# Altium footprint library IP5306_1.PcbLib: 13 footprints
Each footprint in its own frame and in the unit in brackets; x right, y up, seen from the top. Pads: shape width x height; smd on the part's side, far side on the other; paste and mask are expansions set on the pad; w line width, h text height; cw(c..) or ccw(c..) is an arc to the next point about the centre after c.
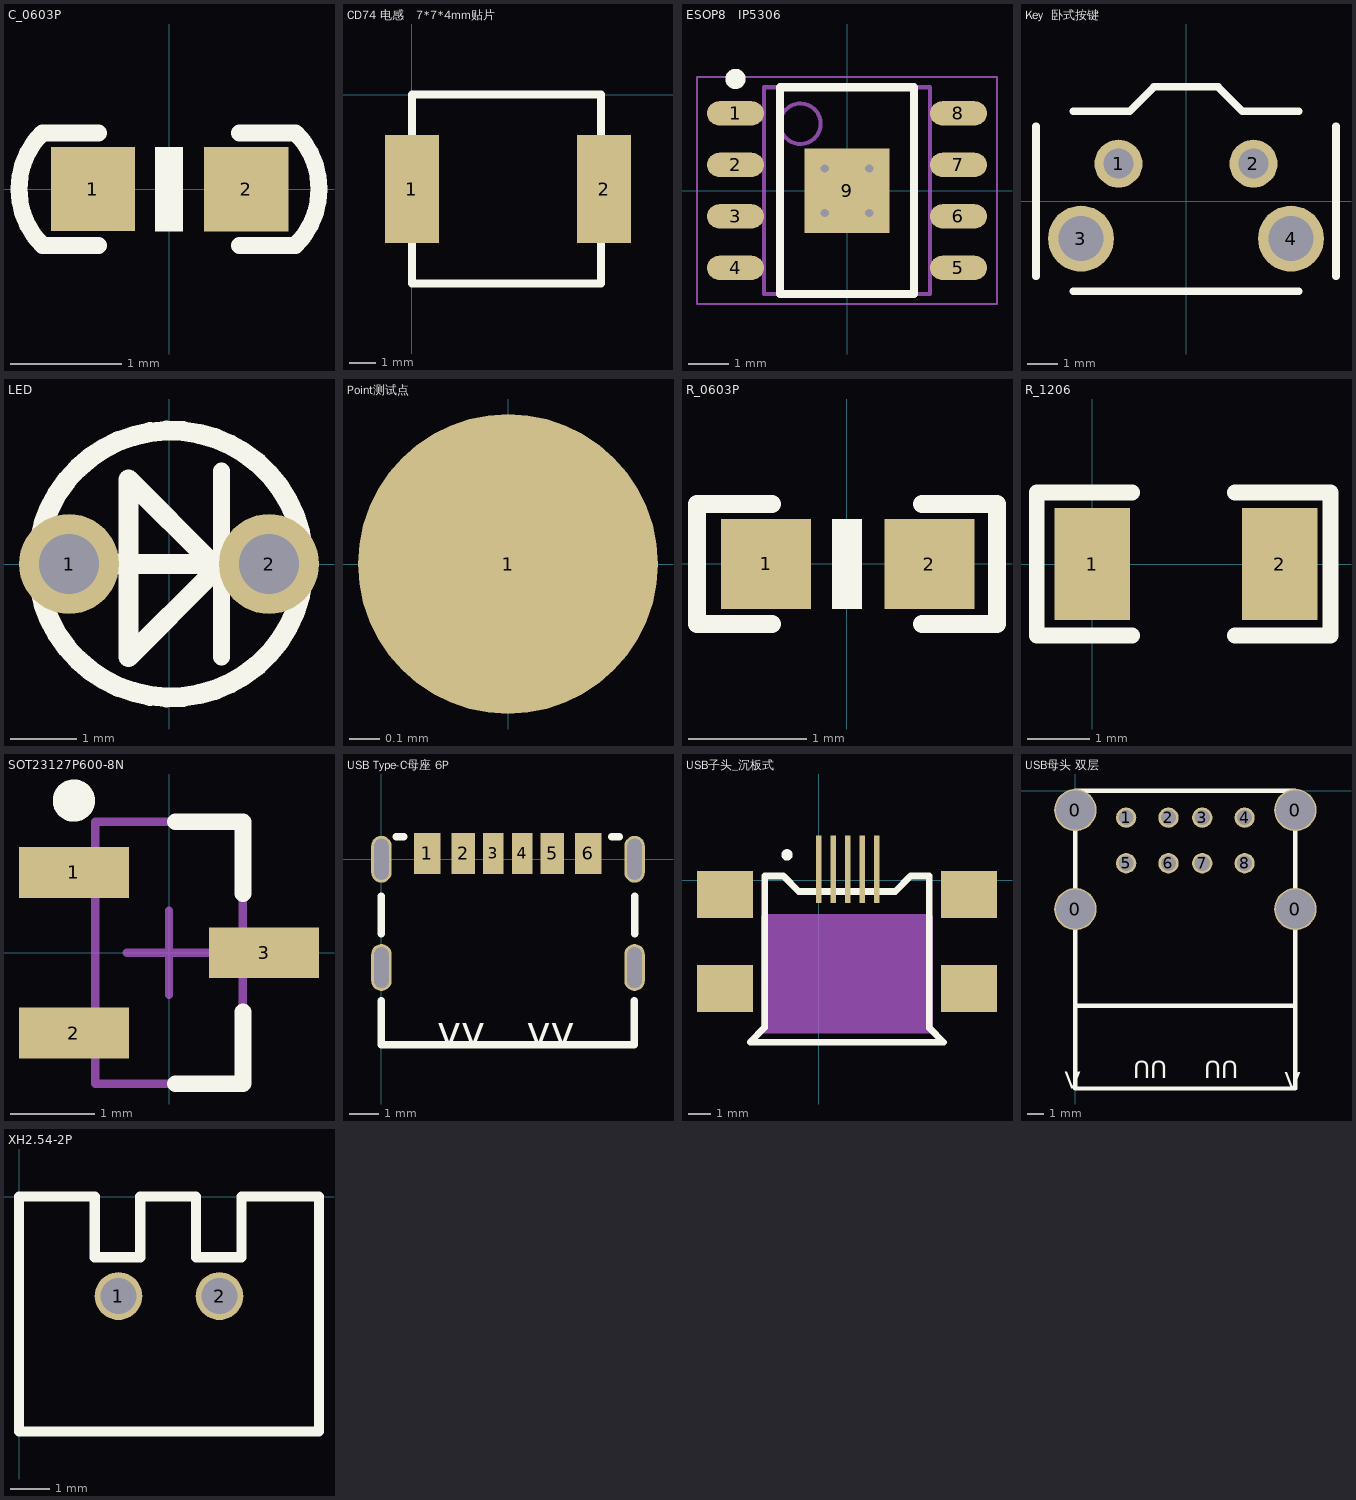
[diagram p0: the footprints below, top view; thin cyan lines are the x and y axes]

## C_0603P [mil]
pads (2):
  rect 30x30 smd: 1(-27,0) 2(27.5,-0.06)
Top Overlay:
  region: 4.99,-15.06 4.99,14.94 -5.01,14.94 -5.01,-15.06
  lines w6: -45,-20.06 -25,-20.06 ; -45,-20 cw(c-25,0) -45,20 ; -45,19.94 -25,19.94 ; 25,-20.06 45,-20.06 ; 25,19.94 45,19.94 ; 45,-20 ccw(c25,0) 45,20

## CD74 电感   7*7*4mm贴片 [mm]
pads (2):
  rect 2x4 smd: 1(0,-3.5) 2(7.112,-3.5)
Top Overlay:
  lines w0.3: 0,-7 7,-7 7,0 0,0 0,-7

## ESOP8   IP5306 [mm] "SOP, 8-Leads, Body 4.90x3.90mm, Pitch 1.27mm, Thermal Pad 2.09x2.09mm, IPC Medium Density"
height 1.65
pads (9):
  oval 1.4x0.6 smd: 1(-2.75,1.905) 2(-2.75,0.635) 3(-2.75,-0.635) 4(-2.75,-1.905) 5(2.75,-1.905) 6(2.75,-0.635) 7(2.75,0.635) 8(2.75,1.905)
  rect 2.09x2.09 smd: 9(0,0)
via -0.55,0.55 diameter 0.5 hole 0.2
via 0.55,0.55 diameter 0.5 hole 0.2
via -0.55,-0.55 diameter 0.5 hole 0.2
via 0.55,-0.55 diameter 0.5 hole 0.2
Top Overlay:
  circle w0.25: c-2.75,2.755 r0.125
  lines w0.2: -1.65,-2.55 -1.65,2.55 1.65,2.55 1.65,-2.55 -1.65,-2.55
Mechanical 13:
  circle w0.1: c-1.15,1.65 r0.5
  lines w0.1: -2.05,-2.55 -2.05,2.55 2.05,2.55 2.05,-2.55 -2.05,-2.55
Mechanical 15:
  lines w0.05: -3.7,-2.8 -3.7,2.8 3.7,2.8 3.7,-2.8 -3.7,-2.8
  lines w0.1: -0.5,0 0.5,0 ; 0,-0.5 0,0.5
3D body: height 1.65, standoff 0.05, extent -2.05,-2.55 2.05,2.55

## Key  卧式按键 [mm] "卧式按键"
height 5
pads (4):
  round 1.6 hole 1: 1(-2.25,1.25) 2(2.25,1.25)
  round 2.2 hole 1.5: 3(-3.5,-1.25) 4(3.5,-1.25)
Top Overlay:
  lines w0.254: -5,-2.5 -5,2.5 ; -3.75,-3 3.75,-3 ; -3.75,3 -1.875,3 -1.065,3.81 1.065,3.81 1.875,3 3.75,3 ; 5,-2.5 5,2.5

## LED [mm]
pads (2):
  round 1.5 hole 0.9: 1(-1.5,0) 2(1.5,0)
Top Overlay:
  circle w0.3: c0.024,0 r2
  lines w0.254: 0.786,-1.397 0.786,1.397
  lines w0.3: -1.881,0 1.802,0 ; -1.5,0 1.04,0 1.294,-0.254 ; 0.659,-0.127 -0.611,-1.397 -0.611,1.27 0.659,0

## Point测试点 [mm]
pads (1):
  round 1 smd: 1(0,0)

## R_0603P [mil]
pads (2):
  rect 30x30 smd: 1(-27,0) 2(27.5,-0.06)
Top Overlay:
  region: 4.99,-15.06 4.99,14.94 -5.01,14.94 -5.01,-15.06
  lines w6: -25,-20.06 -50,-20.06 -50,19.94 -25,19.94 ; 25,-20.06 50,-20.06 50,19.94 25,19.94

## R_1206 [mm]
pads (2):
  rect 1.2x1.8 smd: 1(0,0) 2(3,0)
Top Overlay:
  lines w0.254: 0.635,-1.143 -0.889,-1.143 -0.889,1.143 0.635,1.143 ; 2.286,-1.143 3.81,-1.143 3.81,1.143 2.286,1.143

## SOT23127P600-8N [mm]
height 1.45
pads (3):
  rect 1.3x0.6 smd: 1(-1.125,0.95) 2(-1.125,-0.95) 3(1.125,0)
Top Overlay:
  circle w0.25: c-1.125,1.8 r0.125
  lines w0.2: 0.075,-1.55 0.875,-1.55 0.875,-0.7 ; 0.075,1.55 0.875,1.55 0.875,0.7
Mechanical 13:
  lines w0.1: -0.875,-1.55 0.875,-1.55 0.875,1.55 -0.875,1.55 -0.875,-1.55
Mechanical 15:
  lines w0.1: -0.5,0 0.5,0 ; 0,-0.5 0,0.5
3D body: height 1.45, standoff 0.05, extent -0.875,-1.55 0.875,1.55

## USB Type-C母座 6P [mm] "6p贴片母座简易型快充插座4固定插脚大电流"
pads (10):
  rect 0.9x1.4 smd: 1(1.57,0.2) 6(7.07,0.2)
  rect 0.8x1.4 smd: 2(2.8,0.2) 5(5.84,0.2)
  rect 0.7x1.4 smd: 3(3.82,0.2) 4(4.82,0.2)
  oval 0.7x1.6 hole 0.5 slot 1.4 at 90 deg: ""(0,-3.7) ""(0,0) ""(8.65,-3.7) ""(8.65,0)
Top Overlay:
  lines w0.254: 0,-4.826 0,-6.342 8.636,-6.342 8.636,-4.826 ; 0,-2.54 0,-1.27 ; 0.508,0.762 0.762,0.762 ; 7.874,0.762 8.128,0.762 ; 8.65,-2.54 8.65,-1.27
  text "vv" at 3.556,-6.35 h1.02
  text "vv" at 6.604,-6.35 h1.02

## USB子头_沉板式 [mm]
pads (9):
  rect 0.25x3 smd: 1(0,0.5) 2(0.65,0.5) 3(1.3,0.5) 4(1.95,0.5) 5(2.6,0.5)
  rect 2.5x2.1 smd: ""(-4.191,-4.835) ""(-4.191,-0.635) ""(6.731,-4.835) ""(6.731,-0.635)
Top Overlay:
  circle w0.254: c-1.414,1.143 r0.127
  lines w0.3: -2.413,-1.905 -2.413,0.199 -1.579,0.199 -0.889,-0.491 3.412,-0.491 ; -2.413,-1.27 -2.413,-6.477 -2.413,-6.587 -3.065,-7.239 5.588,-7.239 4.953,-6.604 4.953,-1.397 ; 3.429,-0.491 4.119,0.199 4.953,0.199 4.953,-2.032
Mechanical 1:
  rectangle: -2.413,-6.731 4.826,-1.651
  lines w0.3: -2.43,-6.701 -2.43,-1.651 4.97,-1.651 4.97,-6.701 -2.43,-6.701

## USB母头 双层 [mm]
pads (12):
  round 2.5 hole 2.3: 0(0,-7) 0(0,-1.15) 0(13,-7) 0(13,-1.15)
  round 1.2 hole 0.9: 1(3,-1.59) 2(5.5,-1.59) 3(7.5,-1.59) 4(10,-1.59) 5(3,-4.29) 6(5.5,-4.29) 7(7.5,-4.29) 8(10,-4.29)
Top Overlay:
  lines w0.254: 0,-17.6 13,-17.6 13,0 0,0 0,-17.526 ; 0,-12.7 13,-12.7
  text "UU" at 7.62,-16.002 h1.02
  text "UU" at 3.429,-16.002 h1.02
  text "V" at 0.33,-17.628 h1.02
  text "V" at 13.31,-17.628 h1.02

## XH2.54-2P [mm]
pads (2):
  round 1.2 hole 0.9: 1(2.5,-2.5) 2(5.04,-2.5)
Top Overlay:
  lines w0.254: 7.493,0 5.588,0 5.588,-1.524 4.445,-1.524 4.445,0 3.048,0 3.048,-1.524 1.905,-1.524 1.905,0 0,0 0,-5.9 7.54,-5.9 7.54,0